# EAGLE library part SX1278IMLTRT (library SX1278IMLTRT)
RF Transceiver SINGLE CHIP 2 BANDS TRANCEIVER Source: Datasheet <https://componentsearchengine.com/Datasheets/1/SX1278IMLTRT.pdf>
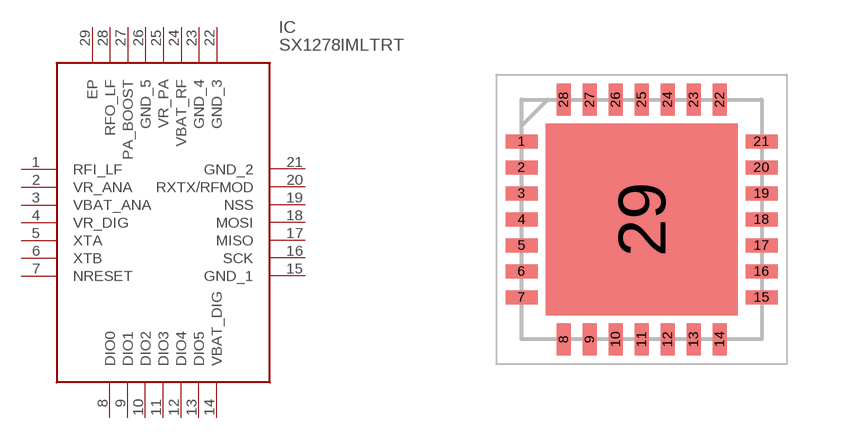
[diagram p0: symbol with the pads of QFN65P600X600X100-29N; footprint QFN65P600X600X100-29N]

Designator prefix IC

## SX1278IMLTRT (Description: RF Transceiver SINGLE CHIP 2 BANDS TRANCEIVER; Height: 1mm; Manufacturer_Name: SEMTECH; Manufacturer_Part_Number: SX1278IMLTRT; Mouser_Part_Number: 947-SX1278IMLTRT; Mouser_Price-Stock: https://www.mouser.com/Search/Refine.aspx?Keyword=947-SX1278IMLTRT)  [QFN65P600X600X100-29N]
1  RFI_LF
2  VR_ANA
3  VBAT_ANA
4  VR_DIG
5  XTA
6  XTB
7  NRESET
8  DIO0
9  DIO1
10  DIO2
11  DIO3
12  DIO4
13  DIO5
14  VBAT_DIG
15  GND_1
16  SCK
17  MISO
18  MOSI
19  NSS
20  RXTX/RFMOD
21  GND_2
22  GND_3
23  GND_4
24  VBAT_RF
25  VR_PA
26  GND_5
27  PA_BOOST
28  RFO_LF
29  EP

## Footprint QFN65P600X600X100-29N (pad centres in mm)
28-Lead QFN_1
smd 0.8 x 0.35: 1 -3,1.95; 2 -3,1.3; 3 -3,0.65; 4 -3,0; 5 -3,-0.65; 6 -3,-1.3; 7 -3,-1.95; 15 3,-1.95; 16 3,-1.3; 17 3,-0.65; 18 3,0; 19 3,0.65; 20 3,1.3; 21 3,1.95
smd 0.35 x 0.8: 8 -1.95,-3; 9 -1.3,-3; 10 -0.65,-3; 11 0,-3; 12 0.65,-3; 13 1.3,-3; 14 1.95,-3; 22 1.95,3; 23 1.3,3; 24 0.65,3; 25 0,3; 26 -0.65,3; 27 -1.3,3; 28 -1.95,3
smd 4.8 x 4.8: 29 0,0